# Altium footprint library VLMB1500-GS08.PcbLib: 3 footprints
Each footprint in its own frame and in the unit in brackets; x right, y up, seen from the top. Pads: shape width x height; smd on the part's side, far side on the other; paste and mask are expansions set on the pad; w line width, h text height; cw(c..) or ccw(c..) is an arc to the next point about the centre after c.
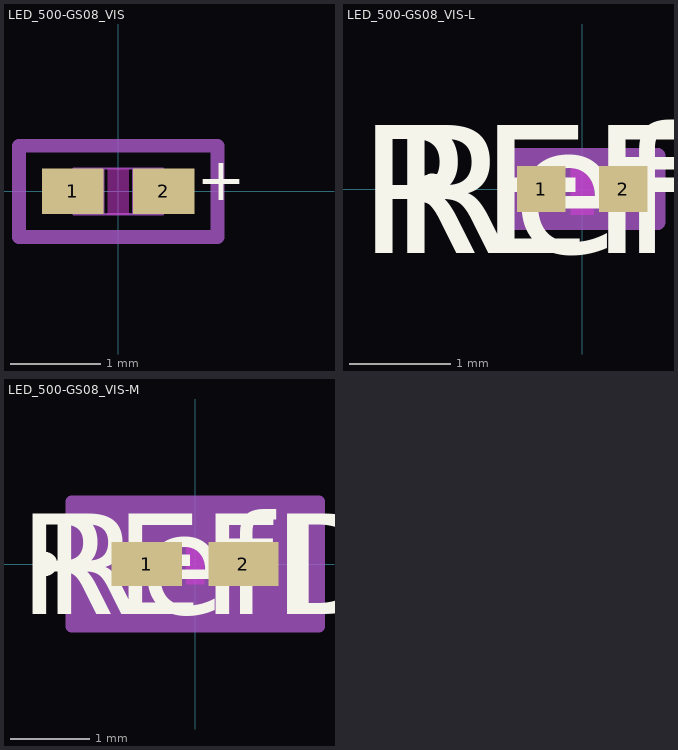
[diagram p0: the footprints below, top view; thin cyan lines are the x and y axes]

## LED_500-GS08_VIS [mil]
pads (2):
  rect 27x20 smd paste+0 mask+0: 1(-20,0) 2(20,0)
Top Layer keep-out:
  region: -4.5,-8 -4.5,8 4.5,8 4.5,-8
Top Overlay:
  text "+" at 56,-9.96 h32
Keep-Out Layer:
  region: -4.5,-10 -4.5,10 4.5,10 4.5,-10
Mechanical 13:
  lines w1: -19.5,-10 -19.5,10 ; -19.5,-10 19.5,-10 ; -19.5,-10 -6.5,-10 -6.5,10 -19.5,10 ; -19.5,-10 -19.5,10 ; -19.5,10 19.5,10 ; 19.5,-10 19.5,10 ; 19.5,-10 19.5,10 ; 19.5,-10 6.5,-10 6.5,10 19.5,10
Mechanical 15:
  lines w6: -43.5,-20 43.5,-20 43.5,20 -43.5,20 -43.5,-20
3D body "VLMx15xx_0402.stp": height 12.6, standoff -1.18, extent -19.68,-9.84 19.68,9.84

## LED_500-GS08_VIS-L [mil]
pads (2):
  rect 19x18 smd paste+0 mask+0: 1(-16,0) 2(16,0)
Top Layer keep-out:
  region: -4.5,-8 -4.5,8 4.5,8 4.5,-8
Top Overlay:
  circle w6: c-58.5,0 r3
  text "RefDes" at -75,-25 h50
  text "REFDES" at -87.5,-25 h50
Keep-Out Layer:
  region: -4.5,-10 -4.5,10 4.5,10 4.5,-10
Mechanical 13:
  circle w0: c-11,0 r3
  lines w1: -19.5,-10 -19.5,10 ; -19.5,-10 -6.5,-10 -6.5,10 -19.5,10 ; -19.5,-10 19.5,-10 ; -19.5,-10 -19.5,10 ; -19.5,10 19.5,10 ; 19.5,-10 6.5,-10 6.5,10 19.5,10 ; 19.5,-10 19.5,10 ; 19.5,-10 19.5,10
  text "RefDes2" at -87.5,-25 h50
Mechanical 15:
  region: 29.5,-13 -29.5,-13 -29.5,13 29.5,13
  lines w6: -29.5,-13 -29.5,13 29.5,13 29.5,-13 -29.5,-13
3D body "LED_500-GS08_VIS.step": height 14.02, standoff 0, extent -19.49,-10 19.49,10

## LED_500-GS08_VIS-M [mil]
pads (2):
  rect 35x22 smd paste+0 mask+0: 1(-24,0) 2(24,0)
Top Layer keep-out:
  region: -4.5,-8 -4.5,8 4.5,8 4.5,-8
Top Overlay:
  circle w6: c-74.5,0 r3
  text "RefDes" at -75,-25 h50
  text "REFDES" at -87.5,-25 h50
Keep-Out Layer:
  region: -4.5,-10 -4.5,10 4.5,10 4.5,-10
Mechanical 13:
  circle w0: c-19,0 r3
  lines w1: -19.5,-10 -19.5,10 ; -19.5,-10 -6.5,-10 -6.5,10 -19.5,10 ; -19.5,-10 19.5,-10 ; -19.5,-10 -19.5,10 ; -19.5,10 19.5,10 ; 19.5,-10 6.5,-10 6.5,10 19.5,10 ; 19.5,-10 19.5,10 ; 19.5,-10 19.5,10
  text "RefDes2" at -87.5,-25 h50
Mechanical 15:
  region: 61.5,-31 -61.5,-31 -61.5,31 61.5,31
  lines w6: -61.5,-31 -61.5,31 61.5,31 61.5,-31 -61.5,-31
3D body "LED_500-GS08_VIS.step": height 14.02, standoff 0, extent -19.49,-10 19.49,10